# Altium schematic symbol library Regulator_Linear.SchLib: 1620 symbols (part 11 of 16)
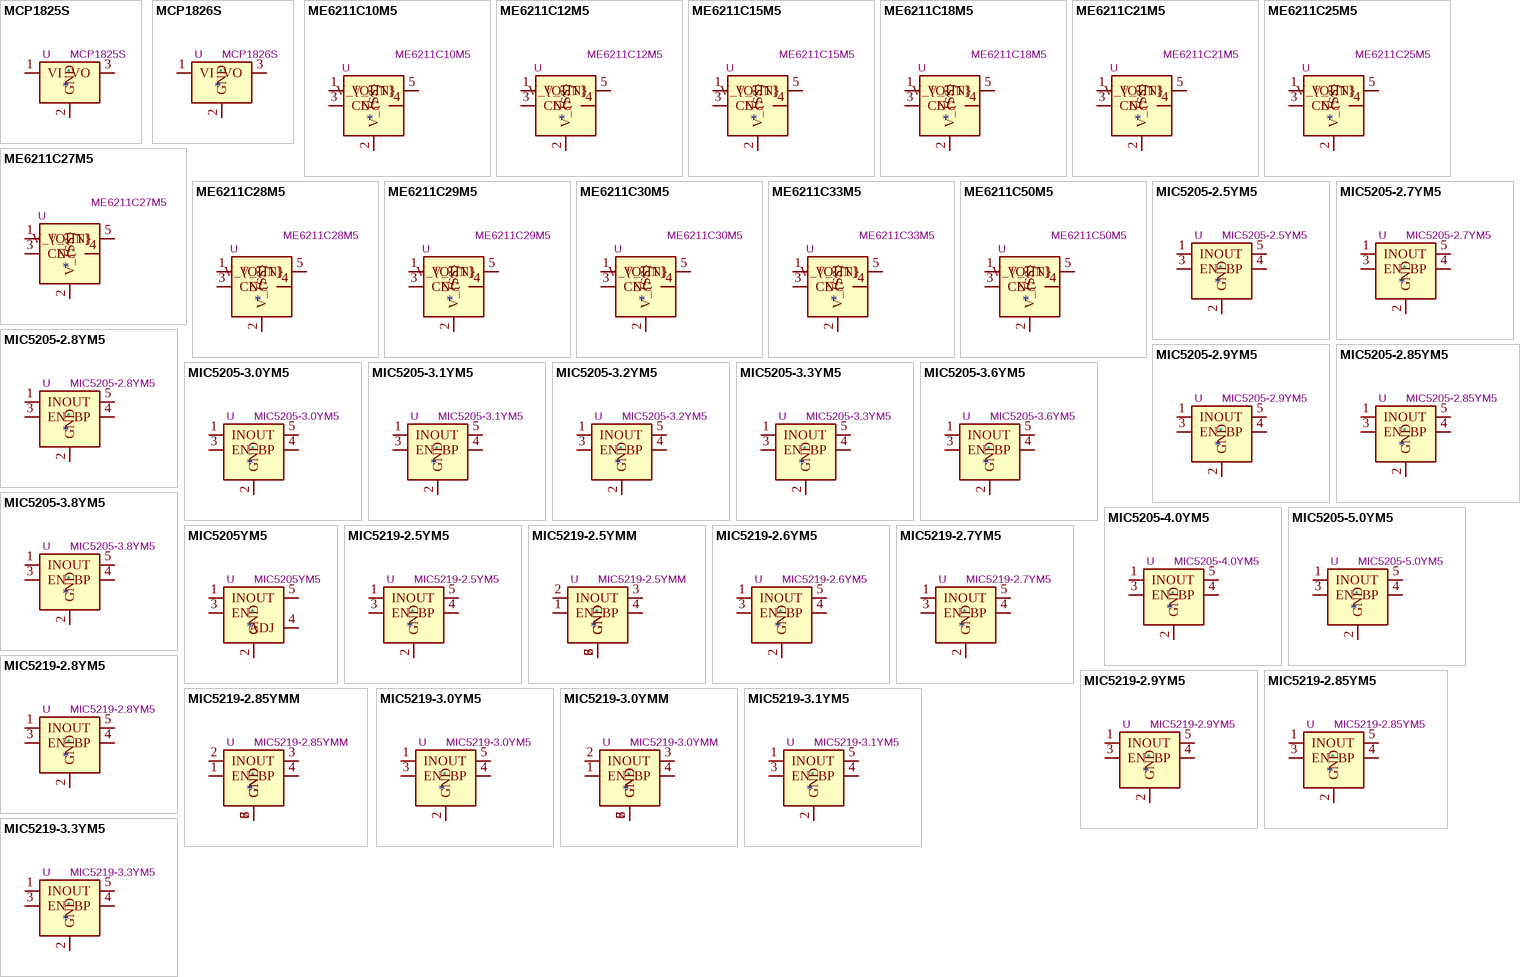
[diagram p50: symbols MCP1825S to MIC5219-3.3YM5]

## MIC5205-2.7YM5
designator *  value MIC5205-2.7YM5  Reference: U
150mA low dropout linear regulator, fixed 2.7V output, SOT-23-5; ki_keywords: 150mA low-noise LDO linear voltage regulator fixed positive; ki_fp_filters: SOT?23*; Footprint: Package_TO_SOT_SMD:SOT-23-5; Datasheet: http://ww1.microchip.com/downloads/en/DeviceDoc/20005785A.pdf; Description_: 150mA low dropout linear regulator, fixed 2.7V output, SOT-23-5
pins: 1 IN, 2 GND, 3 EN, 4 BP, 5 OUT

## MIC5205-2.8YM5
designator *  value MIC5205-2.8YM5  Reference: U
150mA low dropout linear regulator, fixed 2.8V output, SOT-23-5; ki_keywords: 150mA low-noise LDO linear voltage regulator fixed positive; ki_fp_filters: SOT?23*; Footprint: Package_TO_SOT_SMD:SOT-23-5; Datasheet: http://ww1.microchip.com/downloads/en/DeviceDoc/20005785A.pdf; Description_: 150mA low dropout linear regulator, fixed 2.8V output, SOT-23-5
pins: 1 IN, 2 GND, 3 EN, 4 BP, 5 OUT

## MIC5205-2.9YM5
designator *  value MIC5205-2.9YM5  Reference: U
150mA low dropout linear regulator, fixed 2.9V output, SOT-23-5; ki_keywords: 150mA low-noise LDO linear voltage regulator fixed positive; ki_fp_filters: SOT?23*; Footprint: Package_TO_SOT_SMD:SOT-23-5; Datasheet: http://ww1.microchip.com/downloads/en/DeviceDoc/20005785A.pdf; Description_: 150mA low dropout linear regulator, fixed 2.9V output, SOT-23-5
pins: 1 IN, 2 GND, 3 EN, 4 BP, 5 OUT

## MIC5205-2.85YM5
designator *  value MIC5205-2.85YM5  Reference: U
150mA low dropout linear regulator, fixed 2.85V output, SOT-23-5; ki_keywords: 150mA low-noise LDO linear voltage regulator fixed positive; ki_fp_filters: SOT?23*; Footprint: Package_TO_SOT_SMD:SOT-23-5; Datasheet: http://ww1.microchip.com/downloads/en/DeviceDoc/20005785A.pdf; Description_: 150mA low dropout linear regulator, fixed 2.85V output, SOT-23-5
pins: 1 IN, 2 GND, 3 EN, 4 BP, 5 OUT

## MIC5205-3.0YM5
designator *  value MIC5205-3.0YM5  Reference: U
150mA low dropout linear regulator, fixed 3.0V output, SOT-23-5; ki_keywords: 150mA low-noise LDO linear voltage regulator fixed positive; ki_fp_filters: SOT?23*; Footprint: Package_TO_SOT_SMD:SOT-23-5; Datasheet: http://ww1.microchip.com/downloads/en/DeviceDoc/20005785A.pdf; Description_: 150mA low dropout linear regulator, fixed 3.0V output, SOT-23-5
pins: 1 IN, 2 GND, 3 EN, 4 BP, 5 OUT

## MIC5205-3.1YM5
designator *  value MIC5205-3.1YM5  Reference: U
150mA low dropout linear regulator, fixed 3.1V output, SOT-23-5; ki_keywords: 150mA low-noise LDO linear voltage regulator fixed positive; ki_fp_filters: SOT?23*; Footprint: Package_TO_SOT_SMD:SOT-23-5; Datasheet: http://ww1.microchip.com/downloads/en/DeviceDoc/20005785A.pdf; Description_: 150mA low dropout linear regulator, fixed 3.1V output, SOT-23-5
pins: 1 IN, 2 GND, 3 EN, 4 BP, 5 OUT

## MIC5205-3.2YM5
designator *  value MIC5205-3.2YM5  Reference: U
150mA low dropout linear regulator, fixed 3.2V output, SOT-23-5; ki_keywords: 150mA low-noise LDO linear voltage regulator fixed positive; ki_fp_filters: SOT?23*; Footprint: Package_TO_SOT_SMD:SOT-23-5; Datasheet: http://ww1.microchip.com/downloads/en/DeviceDoc/20005785A.pdf; Description_: 150mA low dropout linear regulator, fixed 3.2V output, SOT-23-5
pins: 1 IN, 2 GND, 3 EN, 4 BP, 5 OUT

## MIC5205-3.3YM5
designator *  value MIC5205-3.3YM5  Reference: U
150mA low dropout linear regulator, fixed 3.3V output, SOT-23-5; ki_keywords: 150mA low-noise LDO linear voltage regulator fixed positive; ki_fp_filters: SOT?23*; Footprint: Package_TO_SOT_SMD:SOT-23-5; Datasheet: http://ww1.microchip.com/downloads/en/DeviceDoc/20005785A.pdf; Description_: 150mA low dropout linear regulator, fixed 3.3V output, SOT-23-5
pins: 1 IN, 2 GND, 3 EN, 4 BP, 5 OUT

## MIC5205-3.6YM5
designator *  value MIC5205-3.6YM5  Reference: U
150mA low dropout linear regulator, fixed 3.6V output, SOT-23-5; ki_keywords: 150mA low-noise LDO linear voltage regulator fixed positive; ki_fp_filters: SOT?23*; Footprint: Package_TO_SOT_SMD:SOT-23-5; Datasheet: http://ww1.microchip.com/downloads/en/DeviceDoc/20005785A.pdf; Description_: 150mA low dropout linear regulator, fixed 3.6V output, SOT-23-5
pins: 1 IN, 2 GND, 3 EN, 4 BP, 5 OUT

## MIC5205-3.8YM5
designator *  value MIC5205-3.8YM5  Reference: U
150mA low dropout linear regulator, fixed 3.8V output, SOT-23-5; ki_keywords: 150mA low-noise LDO linear voltage regulator fixed positive; ki_fp_filters: SOT?23*; Footprint: Package_TO_SOT_SMD:SOT-23-5; Datasheet: http://ww1.microchip.com/downloads/en/DeviceDoc/20005785A.pdf; Description_: 150mA low dropout linear regulator, fixed 3.8V output, SOT-23-5
pins: 1 IN, 2 GND, 3 EN, 4 BP, 5 OUT

## MIC5205-4.0YM5
designator *  value MIC5205-4.0YM5  Reference: U
150mA low dropout linear regulator, fixed 4.0V output, SOT-23-5; ki_keywords: 150mA low-noise LDO linear voltage regulator fixed positive; ki_fp_filters: SOT?23*; Footprint: Package_TO_SOT_SMD:SOT-23-5; Datasheet: http://ww1.microchip.com/downloads/en/DeviceDoc/20005785A.pdf; Description_: 150mA low dropout linear regulator, fixed 4.0V output, SOT-23-5
pins: 1 IN, 2 GND, 3 EN, 4 BP, 5 OUT

## MIC5205-5.0YM5
designator *  value MIC5205-5.0YM5  Reference: U
150mA low dropout linear regulator, fixed 5.0V output, SOT-23-5; ki_keywords: 150mA low-noise LDO linear voltage regulator fixed positive; ki_fp_filters: SOT?23*; Footprint: Package_TO_SOT_SMD:SOT-23-5; Datasheet: http://ww1.microchip.com/downloads/en/DeviceDoc/20005785A.pdf; Description_: 150mA low dropout linear regulator, fixed 5.0V output, SOT-23-5
pins: 1 IN, 2 GND, 3 EN, 4 BP, 5 OUT

## MIC5205YM5
designator *  value MIC5205YM5  Reference: U
150mA low dropout linear regulator, adjustable output, SOT-23-5; ki_keywords: 150mA low-noise LDO linear voltage regulator adjustable positive; ki_fp_filters: SOT?23*; Footprint: Package_TO_SOT_SMD:SOT-23-5; Datasheet: http://ww1.microchip.com/downloads/en/DeviceDoc/20005785A.pdf; Description_: 150mA low dropout linear regulator, adjustable output, SOT-23-5
pins: 1 IN, 2 GND, 3 EN, 4 ADJ, 5 OUT

## MIC5219-2.5YM5
designator *  value MIC5219-2.5YM5  Reference: U
500mA low dropout linear regulator, fixed 2.5V output, SOT-23-5; ki_keywords: 500mA ultra-low-noise LDO linear voltage regulator fixed positive; ki_fp_filters: SOT?23*; Footprint: Package_TO_SOT_SMD:SOT-23-5; Datasheet: http://ww1.microchip.com/downloads/en/DeviceDoc/MIC5219-500mA-Peak-Output-LDO-Regulator-DS20006021A.pdf; Description_: 500mA low dropout linear regulator, fixed 2.5V output, SOT-23-5
pins: 1 IN, 2 GND, 3 EN, 4 BP, 5 OUT

## MIC5219-2.5YMM
designator *  value MIC5219-2.5YMM  Reference: U
500mA low dropout linear regulator, fixed 2.5V output, MSOP-8; ki_keywords: 500mA ultra-low-noise LDO linear voltage regulator fixed positive; ki_fp_filters: MSOP*3x3mm*P0.65mm*; Footprint: Package_SO:MSOP-8_3x3mm_P0.65mm; Datasheet: http://ww1.microchip.com/downloads/en/DeviceDoc/MIC5219-500mA-Peak-Output-LDO-Regulator-DS20006021A.pdf; Description_: 500mA low dropout linear regulator, fixed 2.5V output, MSOP-8
pins: 1 EN, 2 IN, 3 OUT, 4 BP, 5 GND, 6 GND, 7 GND, 8 GND

## MIC5219-2.6YM5
designator *  value MIC5219-2.6YM5  Reference: U
500mA low dropout linear regulator, fixed 2.6V output, SOT-23-5; ki_keywords: 500mA ultra-low-noise LDO linear voltage regulator fixed positive; ki_fp_filters: SOT?23*; Footprint: Package_TO_SOT_SMD:SOT-23-5; Datasheet: http://ww1.microchip.com/downloads/en/DeviceDoc/MIC5219-500mA-Peak-Output-LDO-Regulator-DS20006021A.pdf; Description_: 500mA low dropout linear regulator, fixed 2.6V output, SOT-23-5
pins: 1 IN, 2 GND, 3 EN, 4 BP, 5 OUT

## MIC5219-2.7YM5
designator *  value MIC5219-2.7YM5  Reference: U
500mA low dropout linear regulator, fixed 2.7V output, SOT-23-5; ki_keywords: 500mA ultra-low-noise LDO linear voltage regulator fixed positive; ki_fp_filters: SOT?23*; Footprint: Package_TO_SOT_SMD:SOT-23-5; Datasheet: http://ww1.microchip.com/downloads/en/DeviceDoc/MIC5219-500mA-Peak-Output-LDO-Regulator-DS20006021A.pdf; Description_: 500mA low dropout linear regulator, fixed 2.7V output, SOT-23-5
pins: 1 IN, 2 GND, 3 EN, 4 BP, 5 OUT

## MIC5219-2.8YM5
designator *  value MIC5219-2.8YM5  Reference: U
500mA low dropout linear regulator, fixed 2.8V output, SOT-23-5; ki_keywords: 500mA ultra-low-noise LDO linear voltage regulator fixed positive; ki_fp_filters: SOT?23*; Footprint: Package_TO_SOT_SMD:SOT-23-5; Datasheet: http://ww1.microchip.com/downloads/en/DeviceDoc/MIC5219-500mA-Peak-Output-LDO-Regulator-DS20006021A.pdf; Description_: 500mA low dropout linear regulator, fixed 2.8V output, SOT-23-5
pins: 1 IN, 2 GND, 3 EN, 4 BP, 5 OUT

## MIC5219-2.9YM5
designator *  value MIC5219-2.9YM5  Reference: U
500mA low dropout linear regulator, fixed 2.9V output, SOT-23-5; ki_keywords: 500mA ultra-low-noise LDO linear voltage regulator fixed positive; ki_fp_filters: SOT?23*; Footprint: Package_TO_SOT_SMD:SOT-23-5; Datasheet: http://ww1.microchip.com/downloads/en/DeviceDoc/MIC5219-500mA-Peak-Output-LDO-Regulator-DS20006021A.pdf; Description_: 500mA low dropout linear regulator, fixed 2.9V output, SOT-23-5
pins: 1 IN, 2 GND, 3 EN, 4 BP, 5 OUT

## MIC5219-2.85YM5
designator *  value MIC5219-2.85YM5  Reference: U
500mA low dropout linear regulator, fixed 2.85V output, SOT-23-5; ki_keywords: 500mA ultra-low-noise LDO linear voltage regulator fixed positive; ki_fp_filters: SOT?23*; Footprint: Package_TO_SOT_SMD:SOT-23-5; Datasheet: http://ww1.microchip.com/downloads/en/DeviceDoc/MIC5219-500mA-Peak-Output-LDO-Regulator-DS20006021A.pdf; Description_: 500mA low dropout linear regulator, fixed 2.85V output, SOT-23-5
pins: 1 IN, 2 GND, 3 EN, 4 BP, 5 OUT

## MIC5219-2.85YMM
designator *  value MIC5219-2.85YMM  Reference: U
500mA low dropout linear regulator, fixed 2.85V output, MSOP-8; ki_keywords: 500mA ultra-low-noise LDO linear voltage regulator fixed positive; ki_fp_filters: MSOP*3x3mm*P0.65mm*; Footprint: Package_SO:MSOP-8_3x3mm_P0.65mm; Datasheet: http://ww1.microchip.com/downloads/en/DeviceDoc/MIC5219-500mA-Peak-Output-LDO-Regulator-DS20006021A.pdf; Description_: 500mA low dropout linear regulator, fixed 2.85V output, MSOP-8
pins: 1 EN, 2 IN, 3 OUT, 4 BP, 5 GND, 6 GND, 7 GND, 8 GND

## MIC5219-3.0YM5
designator *  value MIC5219-3.0YM5  Reference: U
500mA low dropout linear regulator, fixed 3.0V output, SOT-23-5; ki_keywords: 500mA ultra-low-noise LDO linear voltage regulator fixed positive; ki_fp_filters: SOT?23*; Footprint: Package_TO_SOT_SMD:SOT-23-5; Datasheet: http://ww1.microchip.com/downloads/en/DeviceDoc/MIC5219-500mA-Peak-Output-LDO-Regulator-DS20006021A.pdf; Description_: 500mA low dropout linear regulator, fixed 3.0V output, SOT-23-5
pins: 1 IN, 2 GND, 3 EN, 4 BP, 5 OUT

## MIC5219-3.0YMM
designator *  value MIC5219-3.0YMM  Reference: U
500mA low dropout linear regulator, fixed 3.0V output, MSOP-8; ki_keywords: 500mA ultra-low-noise LDO linear voltage regulator fixed positive; ki_fp_filters: MSOP*3x3mm*P0.65mm*; Footprint: Package_SO:MSOP-8_3x3mm_P0.65mm; Datasheet: http://ww1.microchip.com/downloads/en/DeviceDoc/MIC5219-500mA-Peak-Output-LDO-Regulator-DS20006021A.pdf; Description_: 500mA low dropout linear regulator, fixed 3.0V output, MSOP-8
pins: 1 EN, 2 IN, 3 OUT, 4 BP, 5 GND, 6 GND, 7 GND, 8 GND

## MIC5219-3.1YM5
designator *  value MIC5219-3.1YM5  Reference: U
500mA low dropout linear regulator, fixed 3.1V output, SOT-23-5; ki_keywords: 500mA ultra-low-noise LDO linear voltage regulator fixed positive; ki_fp_filters: SOT?23*; Footprint: Package_TO_SOT_SMD:SOT-23-5; Datasheet: http://ww1.microchip.com/downloads/en/DeviceDoc/MIC5219-500mA-Peak-Output-LDO-Regulator-DS20006021A.pdf; Description_: 500mA low dropout linear regulator, fixed 3.1V output, SOT-23-5
pins: 1 IN, 2 GND, 3 EN, 4 BP, 5 OUT

## MIC5219-3.3YM5
designator *  value MIC5219-3.3YM5  Reference: U
500mA low dropout linear regulator, fixed 3.3V output, SOT-23-5; ki_keywords: 500mA ultra-low-noise LDO linear voltage regulator fixed positive; ki_fp_filters: SOT?23*; Footprint: Package_TO_SOT_SMD:SOT-23-5; Datasheet: http://ww1.microchip.com/downloads/en/DeviceDoc/MIC5219-500mA-Peak-Output-LDO-Regulator-DS20006021A.pdf; Description_: 500mA low dropout linear regulator, fixed 3.3V output, SOT-23-5
pins: 1 IN, 2 GND, 3 EN, 4 BP, 5 OUT

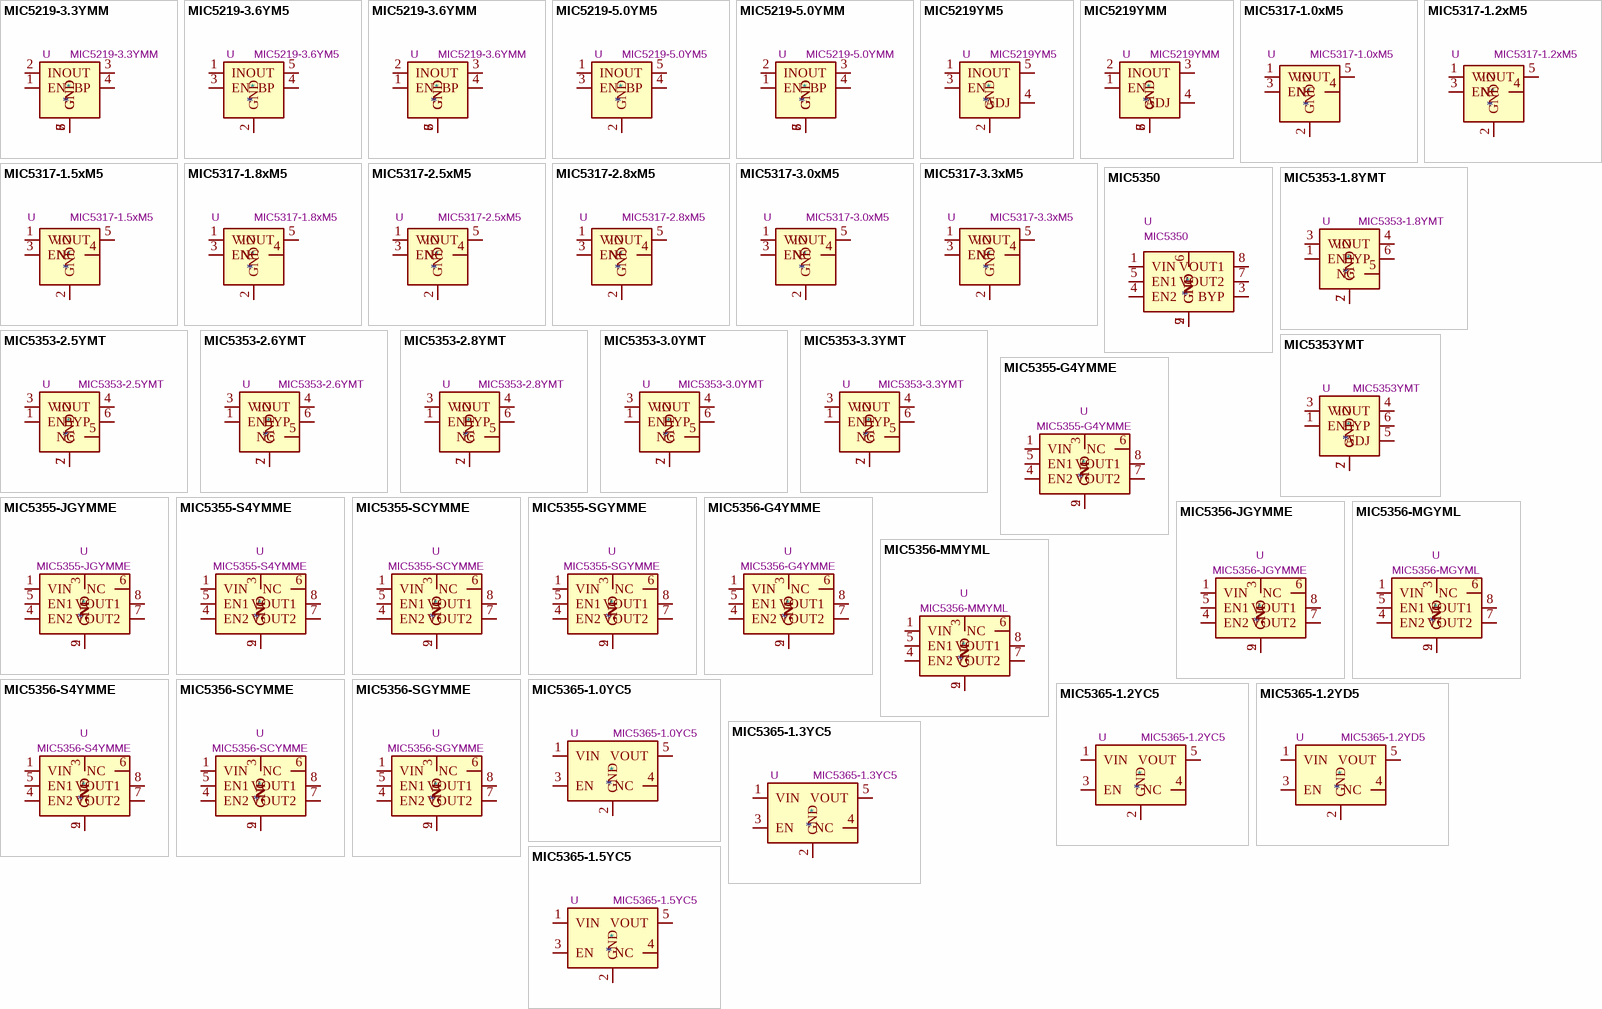
[diagram p27: symbols MIC5219-3.3YMM to MIC5365-1.5YC5]

## MIC5219-3.3YMM
designator *  value MIC5219-3.3YMM  Reference: U
500mA low dropout linear regulator, fixed 3.3V output, MSOP-8; ki_keywords: 500mA ultra-low-noise LDO linear voltage regulator fixed positive; ki_fp_filters: MSOP*3x3mm*P0.65mm*; Footprint: Package_SO:MSOP-8_3x3mm_P0.65mm; Datasheet: http://ww1.microchip.com/downloads/en/DeviceDoc/MIC5219-500mA-Peak-Output-LDO-Regulator-DS20006021A.pdf; Description_: 500mA low dropout linear regulator, fixed 3.3V output, MSOP-8
pins: 1 EN, 2 IN, 3 OUT, 4 BP, 5 GND, 6 GND, 7 GND, 8 GND

## MIC5219-3.6YM5
designator *  value MIC5219-3.6YM5  Reference: U
500mA low dropout linear regulator, fixed 3.6V output, SOT-23-5; ki_keywords: 500mA ultra-low-noise LDO linear voltage regulator fixed positive; ki_fp_filters: SOT?23*; Footprint: Package_TO_SOT_SMD:SOT-23-5; Datasheet: http://ww1.microchip.com/downloads/en/DeviceDoc/MIC5219-500mA-Peak-Output-LDO-Regulator-DS20006021A.pdf; Description_: 500mA low dropout linear regulator, fixed 3.6V output, SOT-23-5
pins: 1 IN, 2 GND, 3 EN, 4 BP, 5 OUT

## MIC5219-3.6YMM
designator *  value MIC5219-3.6YMM  Reference: U
500mA low dropout linear regulator, fixed 3.6V output, MSOP-8; ki_keywords: 500mA ultra-low-noise LDO linear voltage regulator fixed positive; ki_fp_filters: MSOP*3x3mm*P0.65mm*; Footprint: Package_SO:MSOP-8_3x3mm_P0.65mm; Datasheet: http://ww1.microchip.com/downloads/en/DeviceDoc/MIC5219-500mA-Peak-Output-LDO-Regulator-DS20006021A.pdf; Description_: 500mA low dropout linear regulator, fixed 3.6V output, MSOP-8
pins: 1 EN, 2 IN, 3 OUT, 4 BP, 5 GND, 6 GND, 7 GND, 8 GND

## MIC5219-5.0YM5
designator *  value MIC5219-5.0YM5  Reference: U
500mA low dropout linear regulator, fixed 5.0V output, SOT-23-5; ki_keywords: 500mA ultra-low-noise LDO linear voltage regulator fixed positive; ki_fp_filters: SOT?23*; Footprint: Package_TO_SOT_SMD:SOT-23-5; Datasheet: http://ww1.microchip.com/downloads/en/DeviceDoc/MIC5219-500mA-Peak-Output-LDO-Regulator-DS20006021A.pdf; Description_: 500mA low dropout linear regulator, fixed 5.0V output, SOT-23-5
pins: 1 IN, 2 GND, 3 EN, 4 BP, 5 OUT

## MIC5219-5.0YMM
designator *  value MIC5219-5.0YMM  Reference: U
500mA low dropout linear regulator, fixed 5.0V output, MSOP-8; ki_keywords: 500mA ultra-low-noise LDO linear voltage regulator fixed positive; ki_fp_filters: MSOP*3x3mm*P0.65mm*; Footprint: Package_SO:MSOP-8_3x3mm_P0.65mm; Datasheet: http://ww1.microchip.com/downloads/en/DeviceDoc/MIC5219-500mA-Peak-Output-LDO-Regulator-DS20006021A.pdf; Description_: 500mA low dropout linear regulator, fixed 5.0V output, MSOP-8
pins: 1 EN, 2 IN, 3 OUT, 4 BP, 5 GND, 6 GND, 7 GND, 8 GND

## MIC5219YM5
designator *  value MIC5219YM5  Reference: U
500mA low dropout linear regulator, adjustable output, SOT-23-5; ki_keywords: 500mA ultra-low-noise LDO linear voltage regulator adjustable positive; ki_fp_filters: SOT?23*; Footprint: Package_TO_SOT_SMD:SOT-23-5; Datasheet: http://ww1.microchip.com/downloads/en/DeviceDoc/MIC5219-500mA-Peak-Output-LDO-Regulator-DS20006021A.pdf; Description_: 500mA low dropout linear regulator, adjustable output, SOT-23-5
pins: 1 IN, 2 GND, 3 EN, 4 ADJ, 5 OUT

## MIC5219YMM
designator *  value MIC5219YMM  Reference: U
500mA low dropout linear regulator, adjustable output, MSOP-8; ki_keywords: 500mA ultra-low-noise LDO linear voltage regulator adjustable positive; ki_fp_filters: MSOP*3x3mm*P0.65mm*; Footprint: Package_SO:MSOP-8_3x3mm_P0.65mm; Datasheet: http://ww1.microchip.com/downloads/en/DeviceDoc/MIC5219-500mA-Peak-Output-LDO-Regulator-DS20006021A.pdf; Description_: 500mA low dropout linear regulator, adjustable output, MSOP-8
pins: 1 EN, 2 IN, 3 OUT, 4 ADJ, 5 GND, 6 GND, 7 GND, 8 GND

## MIC5317-1.0xM5
designator *  value MIC5317-1.0xM5  Reference: U
150mA Low-dropout Voltage Regulator, Vout 1.0V, Vin up to 6V, SOT23-5; ki_keywords: LDO voltage regulator; ki_fp_filters: SOT?23*; Footprint: Package_TO_SOT_SMD:SOT-23-5; Datasheet: https://ww1.microchip.com/downloads/aemDocuments/documents/OTH/ProductDocuments/DataSheets/MIC5317-High-Performance-Single-150mA-LDO-DS20006195B.pdf; Description_: 150mA Low-dropout Voltage Regulator, Vout 1.0V, Vin up to 6V, SOT23-5
pins: 1 VIN, 2 GND, 3 EN, 4 NC, 5 VOUT

## MIC5317-1.2xM5
designator *  value MIC5317-1.2xM5  Reference: U
150mA Low-dropout Voltage Regulator, Vout 1.2V, Vin up to 6V, SOT23-5; ki_keywords: LDO voltage regulator; ki_fp_filters: SOT?23*; Footprint: Package_TO_SOT_SMD:SOT-23-5; Datasheet: https://ww1.microchip.com/downloads/aemDocuments/documents/OTH/ProductDocuments/DataSheets/MIC5317-High-Performance-Single-150mA-LDO-DS20006195B.pdf; Description_: 150mA Low-dropout Voltage Regulator, Vout 1.2V, Vin up to 6V, SOT23-5
pins: 1 VIN, 2 GND, 3 EN, 4 NC, 5 VOUT

## MIC5317-1.5xM5
designator *  value MIC5317-1.5xM5  Reference: U
150mA Low-dropout Voltage Regulator, Vout 1.5V, Vin up to 6V, SOT23-5; ki_keywords: LDO voltage regulator; ki_fp_filters: SOT?23*; Footprint: Package_TO_SOT_SMD:SOT-23-5; Datasheet: https://ww1.microchip.com/downloads/aemDocuments/documents/OTH/ProductDocuments/DataSheets/MIC5317-High-Performance-Single-150mA-LDO-DS20006195B.pdf; Description_: 150mA Low-dropout Voltage Regulator, Vout 1.5V, Vin up to 6V, SOT23-5
pins: 1 VIN, 2 GND, 3 EN, 4 NC, 5 VOUT

## MIC5317-1.8xM5
designator *  value MIC5317-1.8xM5  Reference: U
150mA Low-dropout Voltage Regulator, Vout 1.8V, Vin up to 6V, SOT23-5; ki_keywords: LDO voltage regulator; ki_fp_filters: SOT?23*; Footprint: Package_TO_SOT_SMD:SOT-23-5; Datasheet: https://ww1.microchip.com/downloads/aemDocuments/documents/OTH/ProductDocuments/DataSheets/MIC5317-High-Performance-Single-150mA-LDO-DS20006195B.pdf; Description_: 150mA Low-dropout Voltage Regulator, Vout 1.8V, Vin up to 6V, SOT23-5
pins: 1 VIN, 2 GND, 3 EN, 4 NC, 5 VOUT

## MIC5317-2.5xM5
designator *  value MIC5317-2.5xM5  Reference: U
150mA Low-dropout Voltage Regulator, Vout 2.5V, Vin up to 6V, SOT23-5; ki_keywords: LDO voltage regulator; ki_fp_filters: SOT?23*; Footprint: Package_TO_SOT_SMD:SOT-23-5; Datasheet: https://ww1.microchip.com/downloads/aemDocuments/documents/OTH/ProductDocuments/DataSheets/MIC5317-High-Performance-Single-150mA-LDO-DS20006195B.pdf; Description_: 150mA Low-dropout Voltage Regulator, Vout 2.5V, Vin up to 6V, SOT23-5
pins: 1 VIN, 2 GND, 3 EN, 4 NC, 5 VOUT

## MIC5317-2.8xM5
designator *  value MIC5317-2.8xM5  Reference: U
150mA Low-dropout Voltage Regulator, Vout 2.8V, Vin up to 6V, SOT23-5; ki_keywords: LDO voltage regulator; ki_fp_filters: SOT?23*; Footprint: Package_TO_SOT_SMD:SOT-23-5; Datasheet: https://ww1.microchip.com/downloads/aemDocuments/documents/OTH/ProductDocuments/DataSheets/MIC5317-High-Performance-Single-150mA-LDO-DS20006195B.pdf; Description_: 150mA Low-dropout Voltage Regulator, Vout 2.8V, Vin up to 6V, SOT23-5
pins: 1 VIN, 2 GND, 3 EN, 4 NC, 5 VOUT

## MIC5317-3.0xM5
designator *  value MIC5317-3.0xM5  Reference: U
150mA Low-dropout Voltage Regulator, Vout 3.0V, Vin up to 6V, SOT23-5; ki_keywords: LDO voltage regulator; ki_fp_filters: SOT?23*; Footprint: Package_TO_SOT_SMD:SOT-23-5; Datasheet: https://ww1.microchip.com/downloads/aemDocuments/documents/OTH/ProductDocuments/DataSheets/MIC5317-High-Performance-Single-150mA-LDO-DS20006195B.pdf; Description_: 150mA Low-dropout Voltage Regulator, Vout 3.0V, Vin up to 6V, SOT23-5
pins: 1 VIN, 2 GND, 3 EN, 4 NC, 5 VOUT

## MIC5317-3.3xM5
designator *  value MIC5317-3.3xM5  Reference: U
150mA Low-dropout Voltage Regulator, Vout 3.3V, Vin up to 6V, SOT23-5; ki_keywords: LDO voltage regulator; ki_fp_filters: SOT?23*; Footprint: Package_TO_SOT_SMD:SOT-23-5; Datasheet: https://ww1.microchip.com/downloads/aemDocuments/documents/OTH/ProductDocuments/DataSheets/MIC5317-High-Performance-Single-150mA-LDO-DS20006195B.pdf; Description_: 150mA Low-dropout Voltage Regulator, Vout 3.3V, Vin up to 6V, SOT23-5
pins: 1 VIN, 2 GND, 3 EN, 4 NC, 5 VOUT

## MIC5350
designator *  value MIC5350  Reference: U
dual 300mA/500mA LDO, MLF-8; ki_keywords: dual LDO; ki_fp_filters: *MLF*2x2mm*P0.5mm*EP0.6x1.2mm*; Footprint: Package_DFN_QFN:Micrel_MLF-8-1EP_2x2mm_P0.5mm_EP0.6x1.2mm; Datasheet: http://ww1.microchip.com/downloads/en/DeviceDoc/mic5350.pdf; Description_: dual 300mA/500mA LDO, MLF-8
pins: 1 VIN, 2 GND, 3 BYP, 4 EN2, 5 EN1, 6 NC, 7 VOUT2, 7 GND, 8 VOUT1, 9 GND

## MIC5353-1.8YMT
designator *  value MIC5353-1.8YMT  Reference: U
High-performance, single-output,  ultra-low  LDO regulator; ki_keywords: Single LDO; ki_fp_filters: MLF?6?1EP*1.6x1.6mm*P0.5mm*; Footprint: Package_DFN_QFN:MLF-6-1EP_1.6x1.6mm_P0.5mm_EP0.5x1.26mm; Datasheet: http://ww1.microchip.com/downloads/en/DeviceDoc/mic5353.pdf; Description_: High-performance, single-output,  ultra-low  LDO regulator
pins: 1 EN, 2 GND, 3 VIN, 4 VOUT, 5 NC, 6 BYP, 7 GND

## MIC5353-2.5YMT
designator *  value MIC5353-2.5YMT  Reference: U
High-performance, single-output,  ultra-low  LDO regulator; ki_keywords: Single LDO; ki_fp_filters: MLF?6?1EP*1.6x1.6mm*P0.5mm*; Footprint: Package_DFN_QFN:MLF-6-1EP_1.6x1.6mm_P0.5mm_EP0.5x1.26mm; Datasheet: http://ww1.microchip.com/downloads/en/DeviceDoc/mic5353.pdf; Description_: High-performance, single-output,  ultra-low  LDO regulator
pins: 1 EN, 2 GND, 3 VIN, 4 VOUT, 5 NC, 6 BYP, 7 GND

## MIC5353-2.6YMT
designator *  value MIC5353-2.6YMT  Reference: U
High-performance, single-output,  ultra-low  LDO regulator; ki_keywords: Single LDO; ki_fp_filters: MLF?6?1EP*1.6x1.6mm*P0.5mm*; Footprint: Package_DFN_QFN:MLF-6-1EP_1.6x1.6mm_P0.5mm_EP0.5x1.26mm; Datasheet: http://ww1.microchip.com/downloads/en/DeviceDoc/mic5353.pdf; Description_: High-performance, single-output,  ultra-low  LDO regulator
pins: 1 EN, 2 GND, 3 VIN, 4 VOUT, 5 NC, 6 BYP, 7 GND

## MIC5353-2.8YMT
designator *  value MIC5353-2.8YMT  Reference: U
High-performance, single-output,  ultra-low  LDO regulator; ki_keywords: Single LDO; ki_fp_filters: MLF?6?1EP*1.6x1.6mm*P0.5mm*; Footprint: Package_DFN_QFN:MLF-6-1EP_1.6x1.6mm_P0.5mm_EP0.5x1.26mm; Datasheet: http://ww1.microchip.com/downloads/en/DeviceDoc/mic5353.pdf; Description_: High-performance, single-output,  ultra-low  LDO regulator
pins: 1 EN, 2 GND, 3 VIN, 4 VOUT, 5 NC, 6 BYP, 7 GND

## MIC5353-3.0YMT
designator *  value MIC5353-3.0YMT  Reference: U
High-performance, single-output,  ultra-low  LDO regulator; ki_keywords: Single LDO; ki_fp_filters: MLF?6?1EP*1.6x1.6mm*P0.5mm*; Footprint: Package_DFN_QFN:MLF-6-1EP_1.6x1.6mm_P0.5mm_EP0.5x1.26mm; Datasheet: http://ww1.microchip.com/downloads/en/DeviceDoc/mic5353.pdf; Description_: High-performance, single-output,  ultra-low  LDO regulator
pins: 1 EN, 2 GND, 3 VIN, 4 VOUT, 5 NC, 6 BYP, 7 GND

## MIC5353-3.3YMT
designator *  value MIC5353-3.3YMT  Reference: U
High-performance, single-output,  ultra-low  LDO regulator; ki_keywords: Single LDO; ki_fp_filters: MLF?6?1EP*1.6x1.6mm*P0.5mm*; Footprint: Package_DFN_QFN:MLF-6-1EP_1.6x1.6mm_P0.5mm_EP0.5x1.26mm; Datasheet: http://ww1.microchip.com/downloads/en/DeviceDoc/mic5353.pdf; Description_: High-performance, single-output,  ultra-low  LDO regulator
pins: 1 EN, 2 GND, 3 VIN, 4 VOUT, 5 NC, 6 BYP, 7 GND

## MIC5353YMT
designator *  value MIC5353YMT  Reference: U
High-performance, single-output,  ultra-low  LDO regulator; ki_keywords: Single LDO; ki_fp_filters: MLF?6?1EP*1.6x1.6mm*P0.5mm*; Footprint: Package_DFN_QFN:MLF-6-1EP_1.6x1.6mm_P0.5mm_EP0.5x1.26mm; Datasheet: http://ww1.microchip.com/downloads/en/DeviceDoc/mic5353.pdf; Description_: High-performance, single-output,  ultra-low  LDO regulator
pins: 1 EN, 2 GND, 3 VIN, 4 VOUT, 5 ADJ, 6 BYP, 7 GND

## MIC5355-G4YMME
designator *  value MIC5355-G4YMME  Reference: U
Dual 500mA μCap Low Dropout Micropower Linear Regulator, 1.8V/1.2V, MSOP-8; ki_keywords: Dual LDO 500mA MSOP-8; ki_fp_filters: MSOP*1EP*3x3mm*P0.65mm*; Footprint: Package_SO:MSOP-8-1EP_3x3mm_P0.65mm_EP2.5x3mm_Mask1.73x2.36mm_ThermalVias; Datasheet: http://ww1.microchip.com/downloads/en/DeviceDoc/mic5355_6.pdf; Description_: Dual 500mA μCap Low Dropout Micropower Linear Regulator, 1.8V/1.2V, MSOP-8
pins: 1 VIN, 2 GND, 3 NC, 4 EN2, 5 EN1, 6 NC, 7 VOUT2, 8 VOUT1, 9 GND

## MIC5355-JGYMME
designator *  value MIC5355-JGYMME  Reference: U
Dual 500mA μCap Low Dropout Micropower Linear Regulator, 2.5V/1.8V, MSOP-8; ki_keywords: Dual LDO 500mA MSOP-8; ki_fp_filters: MSOP*1EP*3x3mm*P0.65mm*; Footprint: Package_SO:MSOP-8-1EP_3x3mm_P0.65mm_EP2.5x3mm_Mask1.73x2.36mm_ThermalVias; Datasheet: http://ww1.microchip.com/downloads/en/DeviceDoc/mic5355_6.pdf; Description_: Dual 500mA μCap Low Dropout Micropower Linear Regulator, 2.5V/1.8V, MSOP-8
pins: 1 VIN, 2 GND, 3 NC, 4 EN2, 5 EN1, 6 NC, 7 VOUT2, 8 VOUT1, 9 GND

## MIC5355-S4YMME
designator *  value MIC5355-S4YMME  Reference: U
Dual 500mA μCap Low Dropout Micropower Linear Regulator, 3.3V/1.2V, MSOP-8; ki_keywords: Dual LDO 500mA MSOP-8; ki_fp_filters: MSOP*1EP*3x3mm*P0.65mm*; Footprint: Package_SO:MSOP-8-1EP_3x3mm_P0.65mm_EP2.5x3mm_Mask1.73x2.36mm_ThermalVias; Datasheet: http://ww1.microchip.com/downloads/en/DeviceDoc/mic5355_6.pdf; Description_: Dual 500mA μCap Low Dropout Micropower Linear Regulator, 3.3V/1.2V, MSOP-8
pins: 1 VIN, 2 GND, 3 NC, 4 EN2, 5 EN1, 6 NC, 7 VOUT2, 8 VOUT1, 9 GND

## MIC5355-SCYMME
designator *  value MIC5355-SCYMME  Reference: U
Dual 500mA μCap Low Dropout Micropower Linear Regulator, 3.3V/1.0V, MSOP-8; ki_keywords: Dual LDO 500mA MSOP-8; ki_fp_filters: MSOP*1EP*3x3mm*P0.65mm*; Footprint: Package_SO:MSOP-8-1EP_3x3mm_P0.65mm_EP2.5x3mm_Mask1.73x2.36mm_ThermalVias; Datasheet: http://ww1.microchip.com/downloads/en/DeviceDoc/mic5355_6.pdf; Description_: Dual 500mA μCap Low Dropout Micropower Linear Regulator, 3.3V/1.0V, MSOP-8
pins: 1 VIN, 2 GND, 3 NC, 4 EN2, 5 EN1, 6 NC, 7 VOUT2, 8 VOUT1, 9 GND

## MIC5355-SGYMME
designator *  value MIC5355-SGYMME  Reference: U
Dual 500mA μCap Low Dropout Micropower Linear Regulator, 3.3V/1.8V, MSOP-8; ki_keywords: Dual LDO 500mA MSOP-8; ki_fp_filters: MSOP*1EP*3x3mm*P0.65mm*; Footprint: Package_SO:MSOP-8-1EP_3x3mm_P0.65mm_EP2.5x3mm_Mask1.73x2.36mm_ThermalVias; Datasheet: http://ww1.microchip.com/downloads/en/DeviceDoc/mic5355_6.pdf; Description_: Dual 500mA μCap Low Dropout Micropower Linear Regulator, 3.3V/1.8V, MSOP-8
pins: 1 VIN, 2 GND, 3 NC, 4 EN2, 5 EN1, 6 NC, 7 VOUT2, 8 VOUT1, 9 GND

## MIC5356-G4YMME
designator *  value MIC5356-G4YMME  Reference: U
Dual 500mA μCap Low Dropout Micropower Linear Regulator, 1.8V/1.2V, MSOP-8; ki_keywords: Dual LDO 500mA MSOP-8; ki_fp_filters: MSOP*1EP*3x3mm*P0.65mm*; Footprint: Package_SO:MSOP-8-1EP_3x3mm_P0.65mm_EP2.5x3mm_Mask1.73x2.36mm_ThermalVias; Datasheet: http://ww1.microchip.com/downloads/en/DeviceDoc/mic5355_6.pdf; Description_: Dual 500mA μCap Low Dropout Micropower Linear Regulator, 1.8V/1.2V, MSOP-8
pins: 1 VIN, 2 GND, 3 NC, 4 EN2, 5 EN1, 6 NC, 7 VOUT2, 8 VOUT1, 9 GND

## MIC5356-JGYMME
designator *  value MIC5356-JGYMME  Reference: U
Dual 500mA μCap Low Dropout Micropower Linear Regulator, 2.5V/1.8V, MSOP-8; ki_keywords: Dual LDO 500mA MSOP-8; ki_fp_filters: MSOP*1EP*3x3mm*P0.65mm*; Footprint: Package_SO:MSOP-8-1EP_3x3mm_P0.65mm_EP2.5x3mm_Mask1.73x2.36mm_ThermalVias; Datasheet: http://ww1.microchip.com/downloads/en/DeviceDoc/mic5355_6.pdf; Description_: Dual 500mA μCap Low Dropout Micropower Linear Regulator, 2.5V/1.8V, MSOP-8
pins: 1 VIN, 2 GND, 3 NC, 4 EN2, 5 EN1, 6 NC, 7 VOUT2, 8 VOUT1, 9 GND

## MIC5356-MGYML
designator *  value MIC5356-MGYML  Reference: U
Dual 500mA μCap Low Dropout Micropower Linear Regulator, 2.8V/1.8V, DFN-8; ki_keywords: Dual LDO 500mA DFN-8; ki_fp_filters: MLF*1EP*3x3mm*P0.65mm*; Footprint: Package_DFN_QFN:MLF-8-1EP_3x3mm_P0.65mm_EP1.55x2.3mm_ThermalVias; Datasheet: http://ww1.microchip.com/downloads/en/DeviceDoc/mic5355_6.pdf; Description_: Dual 500mA μCap Low Dropout Micropower Linear Regulator, 2.8V/1.8V, DFN-8
pins: 1 VIN, 2 GND, 3 NC, 4 EN2, 5 EN1, 6 NC, 7 VOUT2, 8 VOUT1, 9 GND

## MIC5356-MMYML
designator *  value MIC5356-MMYML  Reference: U
Dual 500mA μCap Low Dropout Micropower Linear Regulator, 2.8V/2.8V, DFN-8; ki_keywords: Dual LDO 500mA DFN-8; ki_fp_filters: MLF*1EP*3x3mm*P0.65mm*; Footprint: Package_DFN_QFN:MLF-8-1EP_3x3mm_P0.65mm_EP1.55x2.3mm_ThermalVias; Datasheet: http://ww1.microchip.com/downloads/en/DeviceDoc/mic5355_6.pdf; Description_: Dual 500mA μCap Low Dropout Micropower Linear Regulator, 2.8V/2.8V, DFN-8
pins: 1 VIN, 2 GND, 3 NC, 4 EN2, 5 EN1, 6 NC, 7 VOUT2, 8 VOUT1, 9 GND

## MIC5356-S4YMME
designator *  value MIC5356-S4YMME  Reference: U
Dual 500mA μCap Low Dropout Micropower Linear Regulator, 3.3V/1.2V, MSOP-8; ki_keywords: Dual LDO 500mA MSOP-8; ki_fp_filters: MSOP*1EP*3x3mm*P0.65mm*; Footprint: Package_SO:MSOP-8-1EP_3x3mm_P0.65mm_EP2.5x3mm_Mask1.73x2.36mm_ThermalVias; Datasheet: http://ww1.microchip.com/downloads/en/DeviceDoc/mic5355_6.pdf; Description_: Dual 500mA μCap Low Dropout Micropower Linear Regulator, 3.3V/1.2V, MSOP-8
pins: 1 VIN, 2 GND, 3 NC, 4 EN2, 5 EN1, 6 NC, 7 VOUT2, 8 VOUT1, 9 GND

## MIC5356-SCYMME
designator *  value MIC5356-SCYMME  Reference: U
Dual 500mA μCap Low Dropout Micropower Linear Regulator, 3.3V/1.0V, MSOP-8; ki_keywords: Dual LDO 500mA MSOP-8; ki_fp_filters: MSOP*1EP*3x3mm*P0.65mm*; Footprint: Package_SO:MSOP-8-1EP_3x3mm_P0.65mm_EP2.5x3mm_Mask1.73x2.36mm_ThermalVias; Datasheet: http://ww1.microchip.com/downloads/en/DeviceDoc/mic5355_6.pdf; Description_: Dual 500mA μCap Low Dropout Micropower Linear Regulator, 3.3V/1.0V, MSOP-8
pins: 1 VIN, 2 GND, 3 NC, 4 EN2, 5 EN1, 6 NC, 7 VOUT2, 8 VOUT1, 9 GND

## MIC5356-SGYMME
designator *  value MIC5356-SGYMME  Reference: U
Dual 500mA μCap Low Dropout Micropower Linear Regulator, 3.3V/1.8V, MSOP-8; ki_keywords: Dual LDO 500mA MSOP-8; ki_fp_filters: MSOP*1EP*3x3mm*P0.65mm*; Footprint: Package_SO:MSOP-8-1EP_3x3mm_P0.65mm_EP2.5x3mm_Mask1.73x2.36mm_ThermalVias; Datasheet: http://ww1.microchip.com/downloads/en/DeviceDoc/mic5355_6.pdf; Description_: Dual 500mA μCap Low Dropout Micropower Linear Regulator, 3.3V/1.8V, MSOP-8
pins: 1 VIN, 2 GND, 3 NC, 4 EN2, 5 EN1, 6 NC, 7 VOUT2, 8 VOUT1, 9 GND

## MIC5365-1.0YC5
designator *  value MIC5365-1.0YC5  Reference: U
150mA Low-dropout Voltage Regulator, Vout 1.0V, Vin up to 5.5V, SC-70-5; ki_keywords: Micrel LDO voltage regulator; ki_fp_filters: SOT*353*SC*70*; Footprint: Package_TO_SOT_SMD:SOT-353_SC-70-5; Datasheet: https://ww1.microchip.com/downloads/aemDocuments/documents/APID/ProductDocuments/DataSheets/MIC5365-6-High-Performance-Single-150mA-LDO-DS20006605A.pdf; Description_: 150mA Low-dropout Voltage Regulator, Vout 1.0V, Vin up to 5.5V, SC-70-5
pins: 1 VIN, 2 GND, 3 EN, 4 NC, 5 VOUT

## MIC5365-1.2YC5
designator *  value MIC5365-1.2YC5  Reference: U
150mA Low-dropout Voltage Regulator, Vout 1.2V, Vin up to 5.5V, SC-70-5; ki_keywords: Micrel LDO voltage regulator; ki_fp_filters: SOT*353*SC*70*; Footprint: Package_TO_SOT_SMD:SOT-353_SC-70-5; Datasheet: https://ww1.microchip.com/downloads/aemDocuments/documents/APID/ProductDocuments/DataSheets/MIC5365-6-High-Performance-Single-150mA-LDO-DS20006605A.pdf; Description_: 150mA Low-dropout Voltage Regulator, Vout 1.2V, Vin up to 5.5V, SC-70-5
pins: 1 VIN, 2 GND, 3 EN, 4 NC, 5 VOUT

## MIC5365-1.2YD5
designator *  value MIC5365-1.2YD5  Reference: U
150mA Low-dropout Voltage Regulator, Vout 1.2V, Vin up to 5.5V, TSOT-23-5; ki_keywords: Micrel LDO voltage regulator; ki_fp_filters: TSOT?23*; Footprint: Package_TO_SOT_SMD:TSOT-23-5; Datasheet: https://ww1.microchip.com/downloads/aemDocuments/documents/APID/ProductDocuments/DataSheets/MIC5365-6-High-Performance-Single-150mA-LDO-DS20006605A.pdf; Description_: 150mA Low-dropout Voltage Regulator, Vout 1.2V, Vin up to 5.5V, TSOT-23-5
pins: 1 VIN, 2 GND, 3 EN, 4 NC, 5 VOUT

## MIC5365-1.3YC5
designator *  value MIC5365-1.3YC5  Reference: U
150mA Low-dropout Voltage Regulator, Vout 1.3V, Vin up to 5.5V, SC-70-5; ki_keywords: Micrel LDO voltage regulator; ki_fp_filters: SOT*353*SC*70*; Footprint: Package_TO_SOT_SMD:SOT-353_SC-70-5; Datasheet: https://ww1.microchip.com/downloads/aemDocuments/documents/APID/ProductDocuments/DataSheets/MIC5365-6-High-Performance-Single-150mA-LDO-DS20006605A.pdf; Description_: 150mA Low-dropout Voltage Regulator, Vout 1.3V, Vin up to 5.5V, SC-70-5
pins: 1 VIN, 2 GND, 3 EN, 4 NC, 5 VOUT

## MIC5365-1.5YC5
designator *  value MIC5365-1.5YC5  Reference: U
150mA Low-dropout Voltage Regulator, Vout 1.5V, Vin up to 5.5V, SC-70-5; ki_keywords: Micrel LDO voltage regulator; ki_fp_filters: SOT*353*SC*70*; Footprint: Package_TO_SOT_SMD:SOT-353_SC-70-5; Datasheet: https://ww1.microchip.com/downloads/aemDocuments/documents/APID/ProductDocuments/DataSheets/MIC5365-6-High-Performance-Single-150mA-LDO-DS20006605A.pdf; Description_: 150mA Low-dropout Voltage Regulator, Vout 1.5V, Vin up to 5.5V, SC-70-5
pins: 1 VIN, 2 GND, 3 EN, 4 NC, 5 VOUT

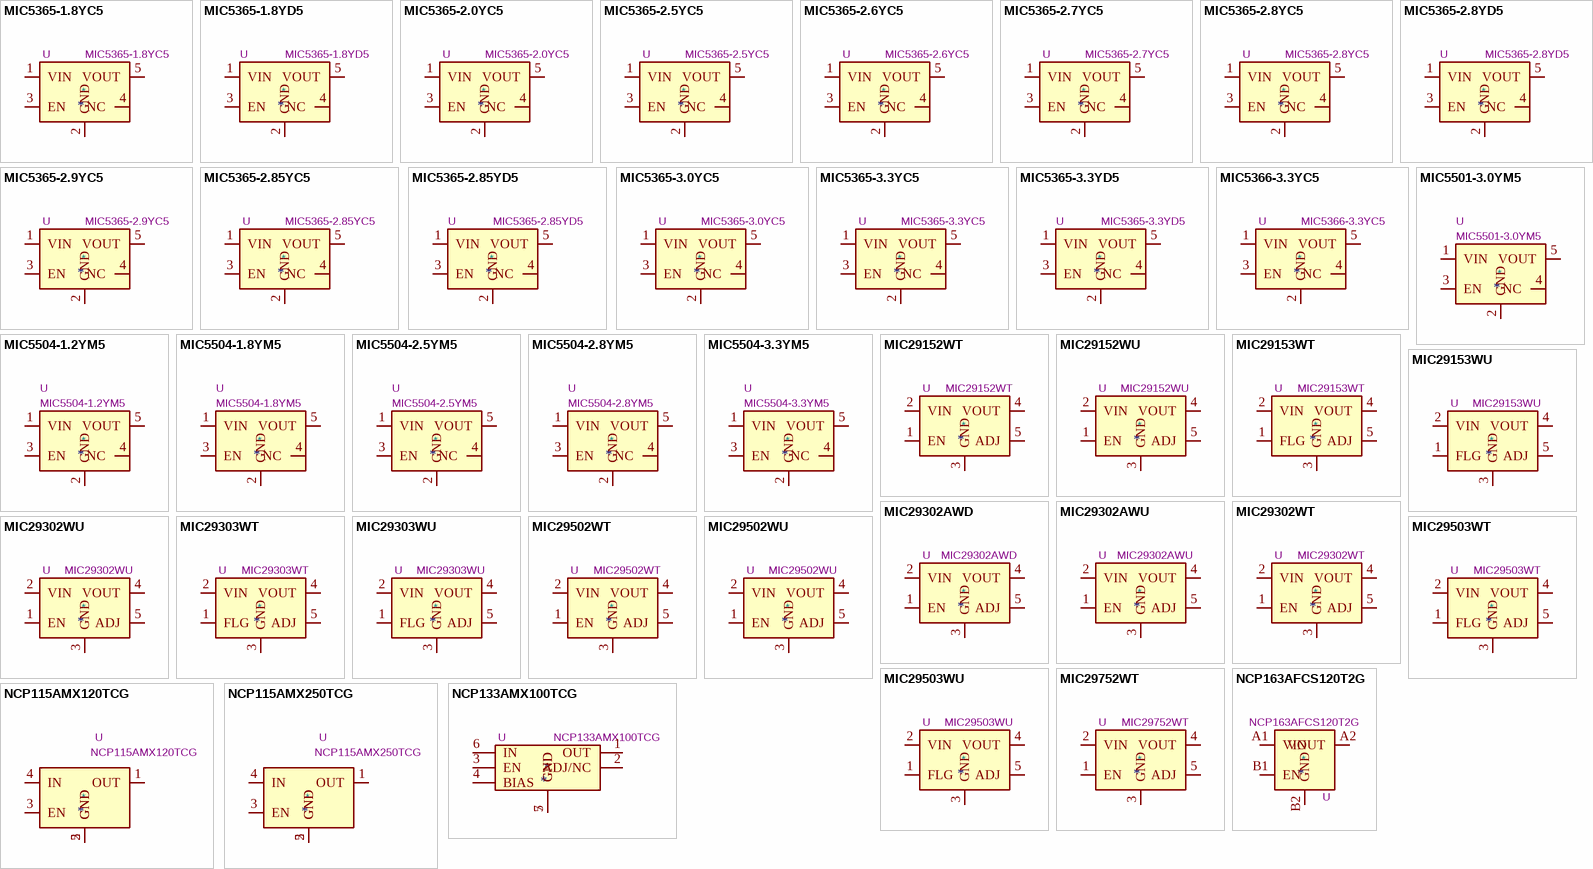
[diagram p28: symbols MIC5365-1.8YC5 to NCP163AFCS120T2G]

## MIC5365-1.8YC5
designator *  value MIC5365-1.8YC5  Reference: U
150mA Low-dropout Voltage Regulator, Vout 1.8V, Vin up to 5.5V, SC-70-5; ki_keywords: Micrel LDO voltage regulator; ki_fp_filters: SOT*353*SC*70*; Footprint: Package_TO_SOT_SMD:SOT-353_SC-70-5; Datasheet: https://ww1.microchip.com/downloads/aemDocuments/documents/APID/ProductDocuments/DataSheets/MIC5365-6-High-Performance-Single-150mA-LDO-DS20006605A.pdf; Description_: 150mA Low-dropout Voltage Regulator, Vout 1.8V, Vin up to 5.5V, SC-70-5
pins: 1 VIN, 2 GND, 3 EN, 4 NC, 5 VOUT

## MIC5365-1.8YD5
designator *  value MIC5365-1.8YD5  Reference: U
150mA Low-dropout Voltage Regulator, Vout 1.8V, Vin up to 5.5V, TSOT-23-5; ki_keywords: Micrel LDO voltage regulator; ki_fp_filters: TSOT?23*; Footprint: Package_TO_SOT_SMD:TSOT-23-5; Datasheet: https://ww1.microchip.com/downloads/aemDocuments/documents/APID/ProductDocuments/DataSheets/MIC5365-6-High-Performance-Single-150mA-LDO-DS20006605A.pdf; Description_: 150mA Low-dropout Voltage Regulator, Vout 1.8V, Vin up to 5.5V, TSOT-23-5
pins: 1 VIN, 2 GND, 3 EN, 4 NC, 5 VOUT

## MIC5365-2.0YC5
designator *  value MIC5365-2.0YC5  Reference: U
150mA Low-dropout Voltage Regulator, Vout 2.0V, Vin up to 5.5V, SC-70-5; ki_keywords: Micrel LDO voltage regulator; ki_fp_filters: SOT*353*SC*70*; Footprint: Package_TO_SOT_SMD:SOT-353_SC-70-5; Datasheet: https://ww1.microchip.com/downloads/aemDocuments/documents/APID/ProductDocuments/DataSheets/MIC5365-6-High-Performance-Single-150mA-LDO-DS20006605A.pdf; Description_: 150mA Low-dropout Voltage Regulator, Vout 2.0V, Vin up to 5.5V, SC-70-5
pins: 1 VIN, 2 GND, 3 EN, 4 NC, 5 VOUT

## MIC5365-2.5YC5
designator *  value MIC5365-2.5YC5  Reference: U
150mA Low-dropout Voltage Regulator, Vout 2.5V, Vin up to 5.5V, SC-70-5; ki_keywords: Micrel LDO voltage regulator; ki_fp_filters: SOT*353*SC*70*; Footprint: Package_TO_SOT_SMD:SOT-353_SC-70-5; Datasheet: https://ww1.microchip.com/downloads/aemDocuments/documents/APID/ProductDocuments/DataSheets/MIC5365-6-High-Performance-Single-150mA-LDO-DS20006605A.pdf; Description_: 150mA Low-dropout Voltage Regulator, Vout 2.5V, Vin up to 5.5V, SC-70-5
pins: 1 VIN, 2 GND, 3 EN, 4 NC, 5 VOUT

## MIC5365-2.6YC5
designator *  value MIC5365-2.6YC5  Reference: U
150mA Low-dropout Voltage Regulator, Vout 2.6V, Vin up to 5.5V, SC-70-5; ki_keywords: Micrel LDO voltage regulator; ki_fp_filters: SOT*353*SC*70*; Footprint: Package_TO_SOT_SMD:SOT-353_SC-70-5; Datasheet: https://ww1.microchip.com/downloads/aemDocuments/documents/APID/ProductDocuments/DataSheets/MIC5365-6-High-Performance-Single-150mA-LDO-DS20006605A.pdf; Description_: 150mA Low-dropout Voltage Regulator, Vout 2.6V, Vin up to 5.5V, SC-70-5
pins: 1 VIN, 2 GND, 3 EN, 4 NC, 5 VOUT

## MIC5365-2.7YC5
designator *  value MIC5365-2.7YC5  Reference: U
150mA Low-dropout Voltage Regulator, Vout 2.7V, Vin up to 5.5V, SC-70-5; ki_keywords: Micrel LDO voltage regulator; ki_fp_filters: SOT*353*SC*70*; Footprint: Package_TO_SOT_SMD:SOT-353_SC-70-5; Datasheet: https://ww1.microchip.com/downloads/aemDocuments/documents/APID/ProductDocuments/DataSheets/MIC5365-6-High-Performance-Single-150mA-LDO-DS20006605A.pdf; Description_: 150mA Low-dropout Voltage Regulator, Vout 2.7V, Vin up to 5.5V, SC-70-5
pins: 1 VIN, 2 GND, 3 EN, 4 NC, 5 VOUT

## MIC5365-2.8YC5
designator *  value MIC5365-2.8YC5  Reference: U
150mA Low-dropout Voltage Regulator, Vout 2.8V, Vin up to 5.5V, SC-70-5; ki_keywords: Micrel LDO voltage regulator; ki_fp_filters: SOT*353*SC*70*; Footprint: Package_TO_SOT_SMD:SOT-353_SC-70-5; Datasheet: https://ww1.microchip.com/downloads/aemDocuments/documents/APID/ProductDocuments/DataSheets/MIC5365-6-High-Performance-Single-150mA-LDO-DS20006605A.pdf; Description_: 150mA Low-dropout Voltage Regulator, Vout 2.8V, Vin up to 5.5V, SC-70-5
pins: 1 VIN, 2 GND, 3 EN, 4 NC, 5 VOUT

## MIC5365-2.8YD5
designator *  value MIC5365-2.8YD5  Reference: U
150mA Low-dropout Voltage Regulator, Vout 2.8V, Vin up to 5.5V, TSOT-23-5; ki_keywords: Micrel LDO voltage regulator; ki_fp_filters: TSOT?23*; Footprint: Package_TO_SOT_SMD:TSOT-23-5; Datasheet: https://ww1.microchip.com/downloads/aemDocuments/documents/APID/ProductDocuments/DataSheets/MIC5365-6-High-Performance-Single-150mA-LDO-DS20006605A.pdf; Description_: 150mA Low-dropout Voltage Regulator, Vout 2.8V, Vin up to 5.5V, TSOT-23-5
pins: 1 VIN, 2 GND, 3 EN, 4 NC, 5 VOUT

## MIC5365-2.9YC5
designator *  value MIC5365-2.9YC5  Reference: U
150mA Low-dropout Voltage Regulator, Vout 2.9V, Vin up to 5.5V, SC-70-5; ki_keywords: Micrel LDO voltage regulator; ki_fp_filters: SOT*353*SC*70*; Footprint: Package_TO_SOT_SMD:SOT-353_SC-70-5; Datasheet: https://ww1.microchip.com/downloads/aemDocuments/documents/APID/ProductDocuments/DataSheets/MIC5365-6-High-Performance-Single-150mA-LDO-DS20006605A.pdf; Description_: 150mA Low-dropout Voltage Regulator, Vout 2.9V, Vin up to 5.5V, SC-70-5
pins: 1 VIN, 2 GND, 3 EN, 4 NC, 5 VOUT

## MIC5365-2.85YC5
designator *  value MIC5365-2.85YC5  Reference: U
150mA Low-dropout Voltage Regulator, Vout 2.85V, Vin up to 5.5V, SC-70-5; ki_keywords: Micrel LDO voltage regulator; ki_fp_filters: SOT*353*SC*70*; Footprint: Package_TO_SOT_SMD:SOT-353_SC-70-5; Datasheet: https://ww1.microchip.com/downloads/aemDocuments/documents/APID/ProductDocuments/DataSheets/MIC5365-6-High-Performance-Single-150mA-LDO-DS20006605A.pdf; Description_: 150mA Low-dropout Voltage Regulator, Vout 2.85V, Vin up to 5.5V, SC-70-5
pins: 1 VIN, 2 GND, 3 EN, 4 NC, 5 VOUT

## MIC5365-2.85YD5
designator *  value MIC5365-2.85YD5  Reference: U
150mA Low-dropout Voltage Regulator, Vout 2.85V, Vin up to 5.5V, TSOT-23-5; ki_keywords: Micrel LDO voltage regulator; ki_fp_filters: TSOT?23*; Footprint: Package_TO_SOT_SMD:TSOT-23-5; Datasheet: https://ww1.microchip.com/downloads/aemDocuments/documents/APID/ProductDocuments/DataSheets/MIC5365-6-High-Performance-Single-150mA-LDO-DS20006605A.pdf; Description_: 150mA Low-dropout Voltage Regulator, Vout 2.85V, Vin up to 5.5V, TSOT-23-5
pins: 1 VIN, 2 GND, 3 EN, 4 NC, 5 VOUT

## MIC5365-3.0YC5
designator *  value MIC5365-3.0YC5  Reference: U
150mA Low-dropout Voltage Regulator, Vout 3.0V, Vin up to 5.5V, SC-70-5; ki_keywords: Micrel LDO voltage regulator; ki_fp_filters: SOT*353*SC*70*; Footprint: Package_TO_SOT_SMD:SOT-353_SC-70-5; Datasheet: https://ww1.microchip.com/downloads/aemDocuments/documents/APID/ProductDocuments/DataSheets/MIC5365-6-High-Performance-Single-150mA-LDO-DS20006605A.pdf; Description_: 150mA Low-dropout Voltage Regulator, Vout 3.0V, Vin up to 5.5V, SC-70-5
pins: 1 VIN, 2 GND, 3 EN, 4 NC, 5 VOUT

## MIC5365-3.3YC5
designator *  value MIC5365-3.3YC5  Reference: U
150mA Low-dropout Voltage Regulator, Vout 3.3V, Vin up to 5.5V, SC-70-5; ki_keywords: Micrel LDO voltage regulator; ki_fp_filters: SOT*353*SC*70*; Footprint: Package_TO_SOT_SMD:SOT-353_SC-70-5; Datasheet: https://ww1.microchip.com/downloads/aemDocuments/documents/APID/ProductDocuments/DataSheets/MIC5365-6-High-Performance-Single-150mA-LDO-DS20006605A.pdf; Description_: 150mA Low-dropout Voltage Regulator, Vout 3.3V, Vin up to 5.5V, SC-70-5
pins: 1 VIN, 2 GND, 3 EN, 4 NC, 5 VOUT

## MIC5365-3.3YD5
designator *  value MIC5365-3.3YD5  Reference: U
150mA Low-dropout Voltage Regulator, Vout 3.3V, Vin up to 5.5V, TSOT-23-5; ki_keywords: Micrel LDO voltage regulator; ki_fp_filters: TSOT?23*; Footprint: Package_TO_SOT_SMD:TSOT-23-5; Datasheet: https://ww1.microchip.com/downloads/aemDocuments/documents/APID/ProductDocuments/DataSheets/MIC5365-6-High-Performance-Single-150mA-LDO-DS20006605A.pdf; Description_: 150mA Low-dropout Voltage Regulator, Vout 3.3V, Vin up to 5.5V, TSOT-23-5
pins: 1 VIN, 2 GND, 3 EN, 4 NC, 5 VOUT

## MIC5366-3.3YC5
designator *  value MIC5366-3.3YC5  Reference: U
150mA Low-dropout Voltage Regulator, Vout 3.3V, Output discharge circuit, Vin up to 5.5V, SC-70-5; ki_keywords: Micrel LDO voltage regulator; ki_fp_filters: SOT*353*SC*70*; Footprint: Package_TO_SOT_SMD:SOT-353_SC-70-5; Datasheet: https://ww1.microchip.com/downloads/aemDocuments/documents/APID/ProductDocuments/DataSheets/MIC5365-6-High-Performance-Single-150mA-LDO-DS20006605A.pdf; Description_: 150mA Low-dropout Voltage Regulator, Vout 3.3V, Output discharge circuit, Vin up to 5.5V, SC-70-5
pins: 1 VIN, 2 GND, 3 EN, 4 NC, 5 VOUT

## MIC5501-3.0YM5
designator *  value MIC5501-3.0YM5  Reference: U
300mA Low-dropout Voltage Regulator, Vout 3.0V, Vin up to 5.5V, SOT-23; ki_keywords: Micrel LDO voltage regulator; ki_fp_filters: SOT?23?5*; Footprint: Package_TO_SOT_SMD:SOT-23-5; Datasheet: http://ww1.microchip.com/downloads/en/DeviceDoc/MIC550X.pdf; Description_: 300mA Low-dropout Voltage Regulator, Vout 3.0V, Vin up to 5.5V, SOT-23
pins: 1 VIN, 2 GND, 3 EN, 4 NC, 5 VOUT

## MIC5504-1.2YM5
designator *  value MIC5504-1.2YM5  Reference: U
300mA Low-dropout Voltage Regulator, Vout 1.2V, Vin up to 5.5V, SOT-23; ki_keywords: Micrel LDO voltage regulator; ki_fp_filters: SOT?23?5*; Footprint: Package_TO_SOT_SMD:SOT-23-5; Datasheet: http://ww1.microchip.com/downloads/en/DeviceDoc/MIC550X.pdf; Description_: 300mA Low-dropout Voltage Regulator, Vout 1.2V, Vin up to 5.5V, SOT-23
pins: 1 VIN, 2 GND, 3 EN, 4 NC, 5 VOUT

## MIC5504-1.8YM5
designator *  value MIC5504-1.8YM5  Reference: U
300mA Low-dropout Voltage Regulator, Vout 1.8V, Vin up to 5.5V, SOT-23; ki_keywords: Micrel LDO voltage regulator; ki_fp_filters: SOT?23?5*; Footprint: Package_TO_SOT_SMD:SOT-23-5; Datasheet: http://ww1.microchip.com/downloads/en/DeviceDoc/MIC550X.pdf; Description_: 300mA Low-dropout Voltage Regulator, Vout 1.8V, Vin up to 5.5V, SOT-23
pins: 1 VIN, 2 GND, 3 EN, 4 NC, 5 VOUT

## MIC5504-2.5YM5
designator *  value MIC5504-2.5YM5  Reference: U
300mA Low-dropout Voltage Regulator, Vout 2.5V, Vin up to 5.5V, SOT-23; ki_keywords: Micrel LDO voltage regulator; ki_fp_filters: SOT?23?5*; Footprint: Package_TO_SOT_SMD:SOT-23-5; Datasheet: http://ww1.microchip.com/downloads/en/DeviceDoc/MIC550X.pdf; Description_: 300mA Low-dropout Voltage Regulator, Vout 2.5V, Vin up to 5.5V, SOT-23
pins: 1 VIN, 2 GND, 3 EN, 4 NC, 5 VOUT

## MIC5504-2.8YM5
designator *  value MIC5504-2.8YM5  Reference: U
300mA Low-dropout Voltage Regulator, Vout 2.8V, Vin up to 5.5V, SOT-23; ki_keywords: Micrel LDO voltage regulator; ki_fp_filters: SOT?23?5*; Footprint: Package_TO_SOT_SMD:SOT-23-5; Datasheet: http://ww1.microchip.com/downloads/en/DeviceDoc/MIC550X.pdf; Description_: 300mA Low-dropout Voltage Regulator, Vout 2.8V, Vin up to 5.5V, SOT-23
pins: 1 VIN, 2 GND, 3 EN, 4 NC, 5 VOUT

## MIC5504-3.3YM5
designator *  value MIC5504-3.3YM5  Reference: U
300mA Low-dropout Voltage Regulator, Vout 3.3V, Vin up to 5.5V, SOT-23; ki_keywords: Micrel LDO voltage regulator; ki_fp_filters: SOT?23?5*; Footprint: Package_TO_SOT_SMD:SOT-23-5; Datasheet: http://ww1.microchip.com/downloads/en/DeviceDoc/MIC550X.pdf; Description_: 300mA Low-dropout Voltage Regulator, Vout 3.3V, Vin up to 5.5V, SOT-23
pins: 1 VIN, 2 GND, 3 EN, 4 NC, 5 VOUT

## MIC29152WT
designator *  value MIC29152WT  Reference: U
1.5A low dropout linear regulator, adjustable output, TO-220; ki_keywords: 1.5A LDO linear voltage regulator adjustable positive; ki_fp_filters: TO*220*; Footprint: Package_TO_SOT_THT:TO-220-5_P3.4x3.7mm_StaggerEven_Lead3.8mm_Vertical; Datasheet: http://ww1.microchip.com/downloads/en/devicedoc/20005685a.pdf; Description_: 1.5A low dropout linear regulator, adjustable output, TO-220
pins: 1 EN, 2 VIN, 3 GND, 4 VOUT, 5 ADJ

## MIC29152WU
designator *  value MIC29152WU  Reference: U
1.5A low dropout linear regulator, adjustable output, TO-252; ki_keywords: 1.5A LDO linear voltage regulator adjustable positive; ki_fp_filters: TO*252*; Footprint: Package_TO_SOT_SMD:TO-252-5_TabPin3; Datasheet: http://ww1.microchip.com/downloads/en/devicedoc/20005685a.pdf; Description_: 1.5A low dropout linear regulator, adjustable output, TO-252
pins: 1 EN, 2 VIN, 3 GND, 4 VOUT, 5 ADJ

## MIC29153WT
designator *  value MIC29153WT  Reference: U
1.5A low dropout linear regulator, adjustable output, TO-220; ki_keywords: 1.5A LDO linear voltage regulator adjustable positive; ki_fp_filters: TO*220*; Footprint: Package_TO_SOT_THT:TO-220-5_P3.4x3.7mm_StaggerEven_Lead3.8mm_Vertical; Datasheet: http://ww1.microchip.com/downloads/en/devicedoc/20005685a.pdf; Description_: 1.5A low dropout linear regulator, adjustable output, TO-220
pins: 1 FLG, 2 VIN, 3 GND, 4 VOUT, 5 ADJ

## MIC29153WU
designator *  value MIC29153WU  Reference: U
1.5A low dropout linear regulator, adjustable output, TO-263; ki_keywords: 1.5A LDO linear voltage regulator adjustable positive; ki_fp_filters: TO*263*; Footprint: Package_TO_SOT_SMD:TO-263-5_TabPin3; Datasheet: http://ww1.microchip.com/downloads/en/devicedoc/20005685a.pdf; Description_: 1.5A low dropout linear regulator, adjustable output, TO-263
pins: 1 FLG, 2 VIN, 3 GND, 4 VOUT, 5 ADJ

## MIC29302AWD
designator *  value MIC29302AWD  Reference: U
3A low dropout linear regulator, shutdown pin, 3V to 16V input voltage, 1.24V to 15V adjustable output, TO-252; ki_keywords: 3A LDO linear voltage regulator adjustable positive; ki_fp_filters: TO*252*; Footprint: Package_TO_SOT_SMD:TO-252-5_TabPin3; Datasheet: https://ww1.microchip.com/downloads/aemDocuments/documents/OTH/ProductDocuments/DataSheets/20005897B.pdf; Description_: 3A low dropout linear regulator, shutdown pin, 3V to 16V input voltage, 1.24V to 15V adjustable output, TO-252
pins: 1 EN, 2 VIN, 3 GND, 4 VOUT, 5 ADJ

## MIC29302AWU
designator *  value MIC29302AWU  Reference: U
3A low dropout linear regulator, shutdown pin, 3V to 16V input voltage, 1.24V to 15V adjustable output, TO-263; ki_keywords: 3A LDO linear voltage regulator adjustable positive; ki_fp_filters: TO*263*; Footprint: Package_TO_SOT_SMD:TO-263-5_TabPin3; Datasheet: https://ww1.microchip.com/downloads/aemDocuments/documents/OTH/ProductDocuments/DataSheets/20005897B.pdf; Description_: 3A low dropout linear regulator, shutdown pin, 3V to 16V input voltage, 1.24V to 15V adjustable output, TO-263
pins: 1 EN, 2 VIN, 3 GND, 4 VOUT, 5 ADJ

## MIC29302WT
designator *  value MIC29302WT  Reference: U
3A low dropout linear regulator, adjustable output, TO-220; ki_keywords: 3A LDO linear voltage regulator adjustable positive; ki_fp_filters: TO*220*; Footprint: Package_TO_SOT_THT:TO-220-5_P3.4x3.7mm_StaggerEven_Lead3.8mm_Vertical; Datasheet: http://ww1.microchip.com/downloads/en/devicedoc/20005685a.pdf; Description_: 3A low dropout linear regulator, adjustable output, TO-220
pins: 1 EN, 2 VIN, 3 GND, 4 VOUT, 5 ADJ

## MIC29302WU
designator *  value MIC29302WU  Reference: U
3A low dropout linear regulator, adjustable output, TO-263; ki_keywords: 3A LDO linear voltage regulator adjustable positive; ki_fp_filters: TO*263*; Footprint: Package_TO_SOT_SMD:TO-263-5_TabPin3; Datasheet: http://ww1.microchip.com/downloads/en/devicedoc/20005685a.pdf; Description_: 3A low dropout linear regulator, adjustable output, TO-263
pins: 1 EN, 2 VIN, 3 GND, 4 VOUT, 5 ADJ

## MIC29303WT
designator *  value MIC29303WT  Reference: U
3A low dropout linear regulator, adjustable output, TO-220; ki_keywords: 3A LDO linear voltage regulator adjustable positive; ki_fp_filters: TO*220*; Footprint: Package_TO_SOT_THT:TO-220-5_P3.4x3.7mm_StaggerEven_Lead3.8mm_Vertical; Datasheet: http://ww1.microchip.com/downloads/en/devicedoc/20005685a.pdf; Description_: 3A low dropout linear regulator, adjustable output, TO-220
pins: 1 FLG, 2 VIN, 3 GND, 4 VOUT, 5 ADJ

## MIC29303WU
designator *  value MIC29303WU  Reference: U
3A low dropout linear regulator, adjustable output, TO-263; ki_keywords: 3A LDO linear voltage regulator adjustable positive; ki_fp_filters: TO*263*; Footprint: Package_TO_SOT_SMD:TO-263-5_TabPin3; Datasheet: http://ww1.microchip.com/downloads/en/devicedoc/20005685a.pdf; Description_: 3A low dropout linear regulator, adjustable output, TO-263
pins: 1 FLG, 2 VIN, 3 GND, 4 VOUT, 5 ADJ

## MIC29502WT
designator *  value MIC29502WT  Reference: U
5A low dropout linear regulator, adjustable output, TO-220; ki_keywords: 5A LDO linear voltage regulator adjustable positive; ki_fp_filters: TO*220*; Footprint: Package_TO_SOT_THT:TO-220-5_P3.4x3.7mm_StaggerEven_Lead3.8mm_Vertical; Datasheet: http://ww1.microchip.com/downloads/en/devicedoc/20005685a.pdf; Description_: 5A low dropout linear regulator, adjustable output, TO-220
pins: 1 EN, 2 VIN, 3 GND, 4 VOUT, 5 ADJ

## MIC29502WU
designator *  value MIC29502WU  Reference: U
5A low dropout linear regulator, adjustable output, TO-263; ki_keywords: 5A LDO linear voltage regulator adjustable positive; ki_fp_filters: TO*263*; Footprint: Package_TO_SOT_SMD:TO-263-5_TabPin3; Datasheet: http://ww1.microchip.com/downloads/en/devicedoc/20005685a.pdf; Description_: 5A low dropout linear regulator, adjustable output, TO-263
pins: 1 EN, 2 VIN, 3 GND, 4 VOUT, 5 ADJ